# EAGLE library part 8X1PIN-2.54MM-FB-HEADER (library Itead-misc)
CON018
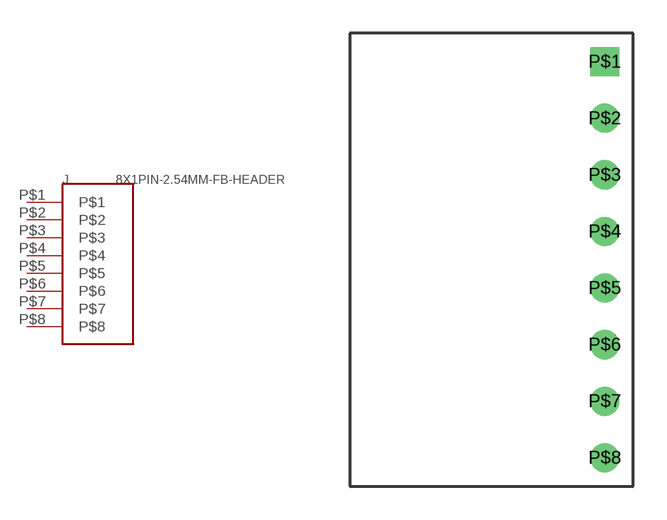
[diagram p18: symbol with the pads of 8X1-2.54MM-B; footprint 8X1-2.54MM-B]

Designator prefix J

## 8X1PIN-2.54MM-FB-HEADER  [8X1-2.54MM-B]
P$1  P$1
P$2  P$2
P$3  P$3
P$4  P$4
P$5  P$5
P$6  P$6
P$7  P$7
P$8  P$8

## Footprint 8X1-2.54MM-B (pad centres in mm)
drill 0.8 square: P$1 0,0
drill 0.8 round: P$2 0,-2.54; P$3 0,-5.08; P$4 0,-7.62; P$5 0,-10.16; P$6 0,-12.7; P$7 0,-15.24; P$8 0,-17.78